# EAGLE library part AVR32_JTAG+SERIAL (library con-special_purpose)
Unified compact debug port with JTAG, 7-12V power supply (VBAT) and serial port.
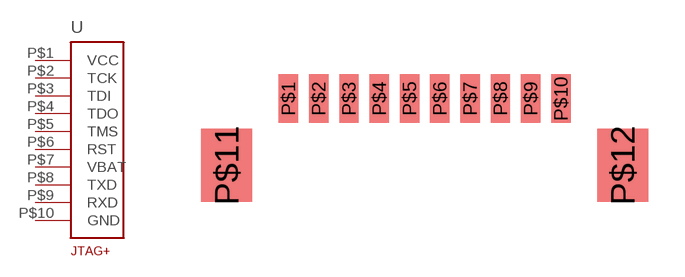
[diagram p17: symbol with the pads of MOLEX_CONNECTOR_10PINS; footprint MOLEX_CONNECTOR_10PINS]

Designator prefix -

## AVR32_JTAG+SERIALMOLEX_PICOBLADE (DISTRIBUTOR: Digikey; ORDER_CODE: WM7628CT-ND; PLACE_PART: YES; UNIT_PRICE: 1.74; UNIT_PRICE_100X: 1.3578; UNIT_PRICE_10X: 1.584; UNIT_PRICE_25X: 1.4868; UNIT_PRICE_50X: 1.4224)  [MOLEX_CONNECTOR_10PINS]
P$1  VCC
P$2  TCK
P$3  TDI
P$4  TDO
P$5  TMS
P$6  RST
P$7  VBAT
P$8  TXD
P$9  RXD
P$10  GND

## AVR32_JTAG+SERIALHIROSE_DF13 (DISTRIBUTOR: Digikey; ORDER_CODE: H3375-ND; PLACE_PART: YES)  [MOLEX_CONNECTOR_10PINS]
Pads as for MOLEX_CONNECTOR_10PINS

## Footprint MOLEX_CONNECTOR_10PINS (pad centres in mm)
smd 0.8 x 2: P$1 -11.65,-0.65; P$2 -10.4,-0.65; P$3 -9.15,-0.65; P$4 -7.9,-0.65; P$5 -6.65,-0.65; P$6 -5.4,-0.65; P$7 -4.15,-0.65; P$8 -2.9,-0.65; P$9 -1.65,-0.65; P$10 -0.4,-0.65
smd 2.1 x 3: P$11 -14.2,-3.4; P$12 2.15,-3.4